# Altium schematic symbol library Connecter.SCHLIB: 18 symbols
Pins are listed as number, name and electrical type; pins without a type are passive.

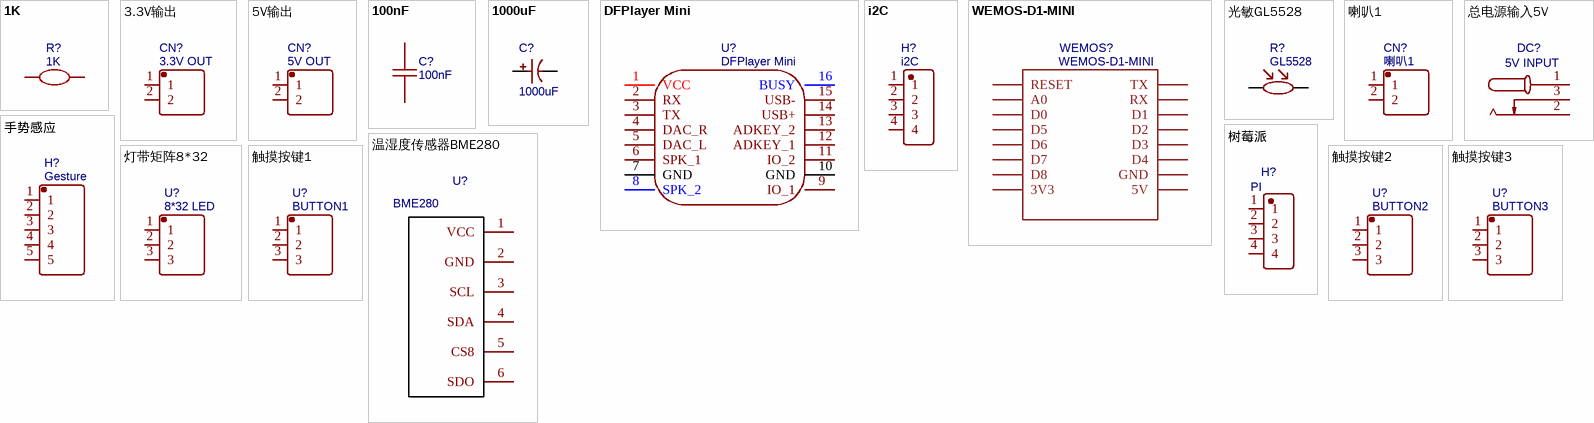
[diagram p0: symbols 1K to 触摸按键3]

## 1K
designator R?
BOM_Manufacturer: TyoHM; BOM_Manufacturer Part: RN 1/8W 1K F T/B A1; nameAlias: Resistance (Ohms); Contributor: LCSC; BOM_Supplier: LCSC; BOM_Supplier Part: C433503; spicePre: R; spiceSymbolName: RN 1/8W 1K F T/B A1
footprint RES-TH_BD1.7-L3.5-P7.50-D0.5
pins: 1, 2

## 3.3V输出
designator CN?, comment 3.3V OUT
BOM_Manufacturer: JST Sales America; Contributor: LCSC; BOM_Supplier: LCSC; BOM_Supplier Part: C160332; BOM_Manufacturer Part: -; spicePre: C; spiceSymbolName: RE-H022TD-1190 (LF)(SN)
footprint HDR-TH_2P-P2.54-V
pins: 1, 2

## 5V输出
designator CN?, comment 5V OUT
BOM_Manufacturer: JST Sales America; Contributor: LCSC; BOM_Supplier: LCSC; BOM_Supplier Part: C160332; BOM_Manufacturer Part: -; spicePre: C; spiceSymbolName: RE-H022TD-1190 (LF)(SN)
footprint HDR-TH_2P-P2.54-V
pins: 1, 2

## 100nF
designator C?
BOM_Manufacturer: Taiyo Yuden; BOM_Manufacturer Part: UMK107B104KAHT; nameAlias: Capacitance; Contributor: LCSC; BOM_Supplier: LCSC; BOM_Supplier Part: C386152; spicePre: C; spiceSymbolName: UMK107B104KAHT
footprint C0603
pins: 1, 2

## 1000uF
designator C?
BOM_Manufacturer: ValuePro; BOM_Manufacturer Part: 1000uF 16V; nameAlias: Capacitance; BOM_Supplier: LCSC; BOM_Supplier Part: C43909; spicePre: C; spiceSymbolName: 1000uF 16V
footprint CAP-TH_BD10.0-P5.00-D1.0-FD
pins: 1, 2

## DFPlayer Mini
designator U?
Contributor: adrirobot; sourceId: cKDVP7pjB; timeStamp: 1464108735; spicePre: U; spiceSymbolName: DFPlayer Mini
footprint DFPLAYER MINI
pins: 1 VCC, 2 RX, 3 TX, 4 DAC_R, 5 DAC_L, 6 SPK_1, 7 GND, 8 SPK_2, 9 IO_1, 10 GND, 11 IO_2, 12 ADKEY_1, 13 ADKEY_2, 14 USB+, 15 USB-, 16 BUSY

## i2C
designator H?
BOM_Manufacturer: ZHENGLING; BOM_Manufacturer Part: Z-211-0411-0021-001; Contributor: LCSC; BOM_Supplier: LCSC; BOM_Supplier Part: C152150; spicePre: H; spiceSymbolName: Z-211-0411-0021-001
footprint HDR-TH_4P-P2.54-V
pins: 1, 2, 3, 4

## WEMOS-D1-MINI
designator WEMOS?
spicePre: W; spiceSymbolName: WEMOS-D1-MINI
footprint WEMOS_D1_MINI_V2.3.0
pins: 3V3, 5V, A0, D0, D1, D2, D3, D4, D5, D6, D7, D8, GND, RESET, RX, TX

## 光敏GL5528
designator R?, comment GL5528
BOM_Manufacturer: Senba; nameAlias: Value; BOM_Supplier: LCSC; BOM_Manufacturer Part: GL5528; BOM_Supplier Part: C125627; spicePre: R; spiceSymbolName: GL5528
footprint RES-TH_L5.1-W4.3-P3.40-D0.5
pins: 1, 2

## 喇叭1
designator CN?
BOM_Manufacturer: JST Sales America; Contributor: LCSC; BOM_Supplier: LCSC; BOM_Supplier Part: C160332; BOM_Manufacturer Part: -; spicePre: C; spiceSymbolName: RE-H022TD-1190 (LF)(SN)
footprint HDR-TH_2P-P2.54-V
pins: 1, 2

## 总电源输入5V
designator DC?, comment 5V INPUT
BOM_Manufacturer: Shenzhen Cankemeng; Contributor: LCSC; BOM_Supplier: LCSC; BOM_Supplier Part: C132516; BOM_Manufacturer Part: -; spicePre: D; spiceSymbolName: dc-005 5.5-2.0
footprint DC-IN-TH_DC005
pins: 1, 2, 3

## 手势感应
designator H?, comment Gesture
BOM_Manufacturer: Amphenol ICC; BOM_Manufacturer Part: 77311-462K05LF; Contributor: LCSC; BOM_Supplier: LCSC; BOM_Supplier Part: C180219; spicePre: H; spiceSymbolName: 77311-462K05LF
footprint HDR-TH_5P-P2.54-V
pins: 1, 2, 3, 4, 5

## 树莓派
designator H?, comment PI
BOM_Manufacturer: ZHENGLING; BOM_Manufacturer Part: Z-211-0411-0021-001; Contributor: LCSC; BOM_Supplier: LCSC; BOM_Supplier Part: C152150; spicePre: H; spiceSymbolName: Z-211-0411-0021-001
footprint HDR-TH_4P-P2.54-V
pins: 1, 2, 3, 4

## 温湿度传感器BME280
designator U?, comment BME280
BOM_Manufacturer Part: BMP280; Contributor: Daver; link: http://www.ebay.com/itm/5Pcs-BMP280-3-3V-Pressure-Sensor-Module-High-Precision-Atmospheric-Arduino-US-/142267570254?hash=item211fced84e:g:K50AAOSwImRYlXAm; spicePre: U; spiceSymbolName: BMP280
footprint BME280 6PINS MINE
pins: 1 VCC, 2 GND, 3 SCL, 4 SDA, 5 CS8, 6 SDO

## 灯带矩阵8*32
designator U?, comment 8*32 LED
BOM_Manufacturer: JST Sales America; BOM_Manufacturer Part: RE-H032TD-1130; Contributor: LCSC; BOM_Supplier: LCSC; BOM_Supplier Part: C265013; spicePre: U; spiceSymbolName: RE-H032TD-1130
footprint HDR-TH_3P-P2.54-V
pins: 1, 2, 3

## 触摸按键1
designator U?, comment BUTTON1
BOM_Manufacturer: JST Sales America; BOM_Manufacturer Part: RE-H032TD-1130; Contributor: LCSC; BOM_Supplier: LCSC; BOM_Supplier Part: C265013; spicePre: U; spiceSymbolName: RE-H032TD-1130
footprint HDR-TH_3P-P2.54-V
pins: 1, 2, 3

## 触摸按键2
designator U?, comment BUTTON2
BOM_Manufacturer: JST Sales America; BOM_Manufacturer Part: RE-H032TD-1130; Contributor: LCSC; BOM_Supplier: LCSC; BOM_Supplier Part: C265013; spicePre: U; spiceSymbolName: RE-H032TD-1130
footprint HDR-TH_3P-P2.54-V
pins: 1, 2, 3

## 触摸按键3
designator U?, comment BUTTON3
BOM_Manufacturer: JST Sales America; BOM_Manufacturer Part: RE-H032TD-1130; Contributor: LCSC; BOM_Supplier: LCSC; BOM_Supplier Part: C265013; spicePre: U; spiceSymbolName: RE-H032TD-1130
footprint HDR-TH_3P-P2.54-V
pins: 1, 2, 3